# EAGLE library part SLG88101 (library LinnesLab-AnalogIC)
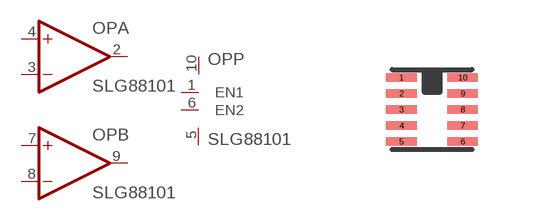
[diagram p9: symbol with the pads of STDFN-10; footprint STDFN-10]

Designator prefix OP; gates A=OPAMP B=OPAMP P=S.PWR+-

## SLG88101  [STDFN-10]
1  P:EN1
2  A:OUT  out
3  A:-IN  in
4  A:+IN  in
5  P:V-  pwr
6  P:EN2
7  B:+IN  in
8  B:-IN  in
9  B:OUT  out
10  P:V+  pwr

## Footprint STDFN-10 (pad centres in mm)
smd 0.765 x 0.21: 1 -0.767,0.8; 2 -0.767,0.4; 3 -0.767,0; 4 -0.767,-0.4; 5 -0.767,-0.8; 6 0.767,-0.8; 7 0.767,-0.4; 8 0.767,0; 9 0.767,0.4; 10 0.767,0.8